# Altium footprint library Cap-Elec-8x9.PcbLib: 1 footprints
Each footprint in its own frame and in the unit in brackets; x right, y up, seen from the top. Pads: shape width x height; smd on the part's side, far side on the other; paste and mask are expansions set on the pad; w line width, h text height; cw(c..) or ccw(c..) is an arc to the next point about the centre after c.
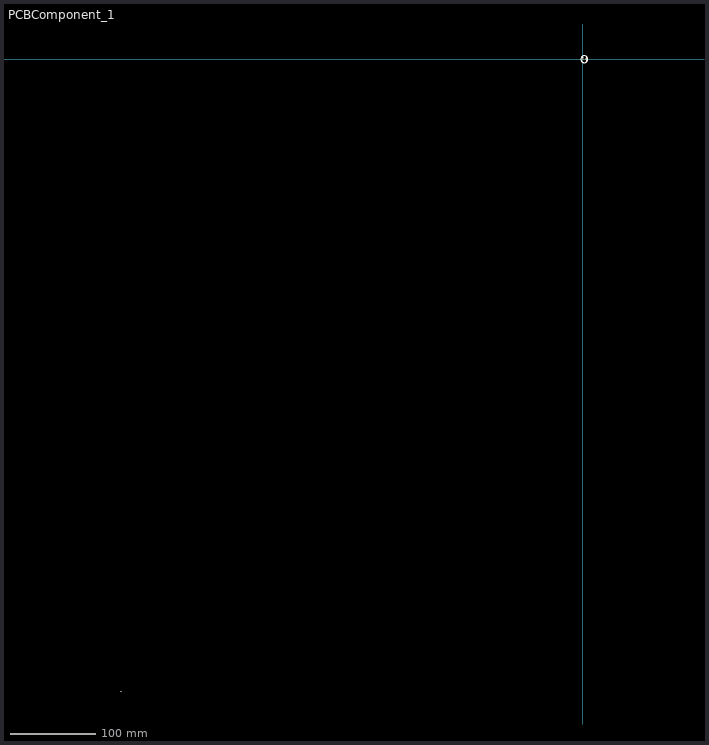
[diagram p0: the footprint, top view; thin cyan lines are the x and y axes]

## PCBComponent_1 [mm]
pads (3):
  round 1.524 hole 0.7: 1(0,0) 2(3.5,0)
  round 1.5 hole 0.9: 10(-542.671,-742.95)
Top Overlay:
  circle w0.254: c1.75,0 r4.008
  lines w0.254: -0.5,2.2 0.5,2.2 ; 0,1.7 0,2.7 ; 4.5,-2.8 4.5,2.8